# Altium schematic symbol library AD5644R.SchLib: 1 symbol
Pins are listed as number, name and electrical type; pins without a type are passive.

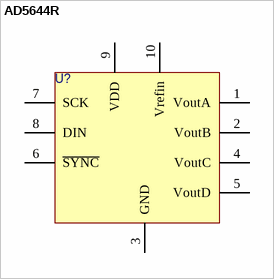
[diagram p0: symbol AD5644R]

## AD5644R
designator U?, comment AD5644RBRMZ-5  (value not drawn)
pins: 1 VoutA, 2 VoutB, 3 GND, 4 VoutC, 5 VoutD, 6 ~{SYNC}, 7 SCK, 8 DIN, 9 VDD, 10 Vrefin